# EAGLE library part MG2040 (library sjg-hdmi)
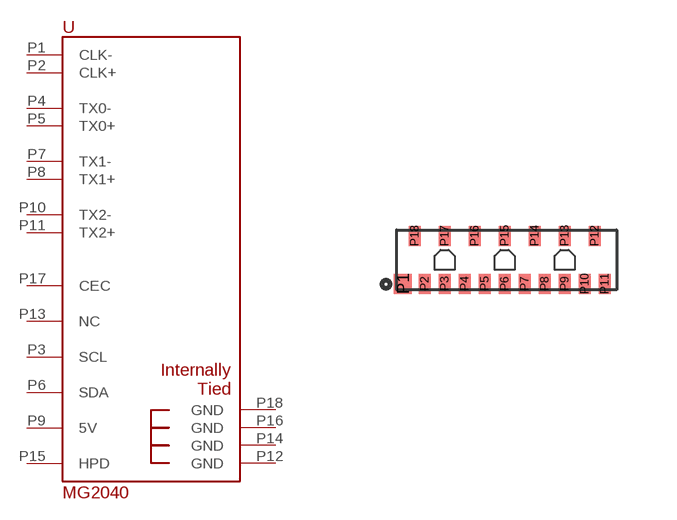
[diagram p0: symbol with the pads of UDFN18; footprint UDFN18]

Designator prefix -

## MG2040  [UDFN18]
P1  CLK-
P2  CLK+
P3  SCL
P4  TX0-
P5  TX0+
P6  SDA
P7  TX1-
P8  TX1+
P9  5V
P10  TX2-
P11  TX2+
P12  GND
P13  NC
P14  GND
P15  HPD
P16  GND
P17  CEC
P18  GND

## Footprint UDFN18 (pad centres in mm)
smd 0.45 x 0.5: P1 -2.55,-0.6
smd 0.3 x 0.5: P2 -2,-0.6; P3 -1.5,-0.6; P4 -1,-0.6; P5 -0.5,-0.6; P6 0,-0.6; P7 0.5,-0.6; P8 1,-0.6; P9 1.5,-0.6; P10 2,-0.6; P11 2.5,-0.6; P12 2.25,0.6; P13 1.5,0.6; P14 0.75,0.6; P15 0,0.6; P16 -0.75,0.6; P17 -1.5,0.6; P18 -2.25,0.6